# EAGLE library part XR-T5670P (library exar)
B8ZS/AMI LINE TRANSCODER
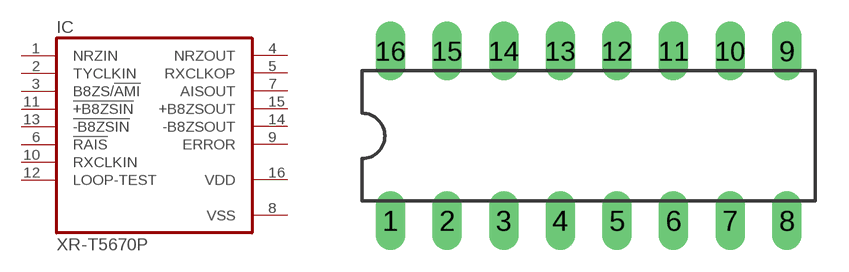
[diagram p83: symbol with the pads of DIL16; footprint DIL16]

Designator prefix IC

## XR-T5670P (OC_FARNELL: unknown; OC_NEWARK: unknown)  [DIL16]
1  NRZIN  in
2  TYCLKIN  in
3  B8ZS/!AMI  in
4  NRZOUT  out
5  RXCLKOP  out
6  !RAIS  in
7  AISOUT  out
8  VSS  pwr
9  ERROR  out
10  RXCLKIN  in
11  !+B8ZSIN  in
12  LOOP-TEST  in
13  !-B8ZSIN  in
14  -B8ZSOUT  out
15  +B8ZSOUT  out
16  VDD  pwr

## Footprint DIL16 (pad centres in mm)
Dual In Line Package
drill 0.813 long: 1 -8.89,-3.81; 2 -6.35,-3.81; 3 -3.81,-3.81; 4 -1.27,-3.81; 5 1.27,-3.81; 6 3.81,-3.81; 7 6.35,-3.81; 8 8.89,-3.81; 9 8.89,3.81; 10 6.35,3.81; 11 3.81,3.81; 12 1.27,3.81; 13 -1.27,3.81; 14 -3.81,3.81; 15 -6.35,3.81; 16 -8.89,3.81